# Altium integrated library Linear Technology Power Management Switching Regulator LTC1174-LTC3901.IntLib: 2647 symbols (part 58 of 364)
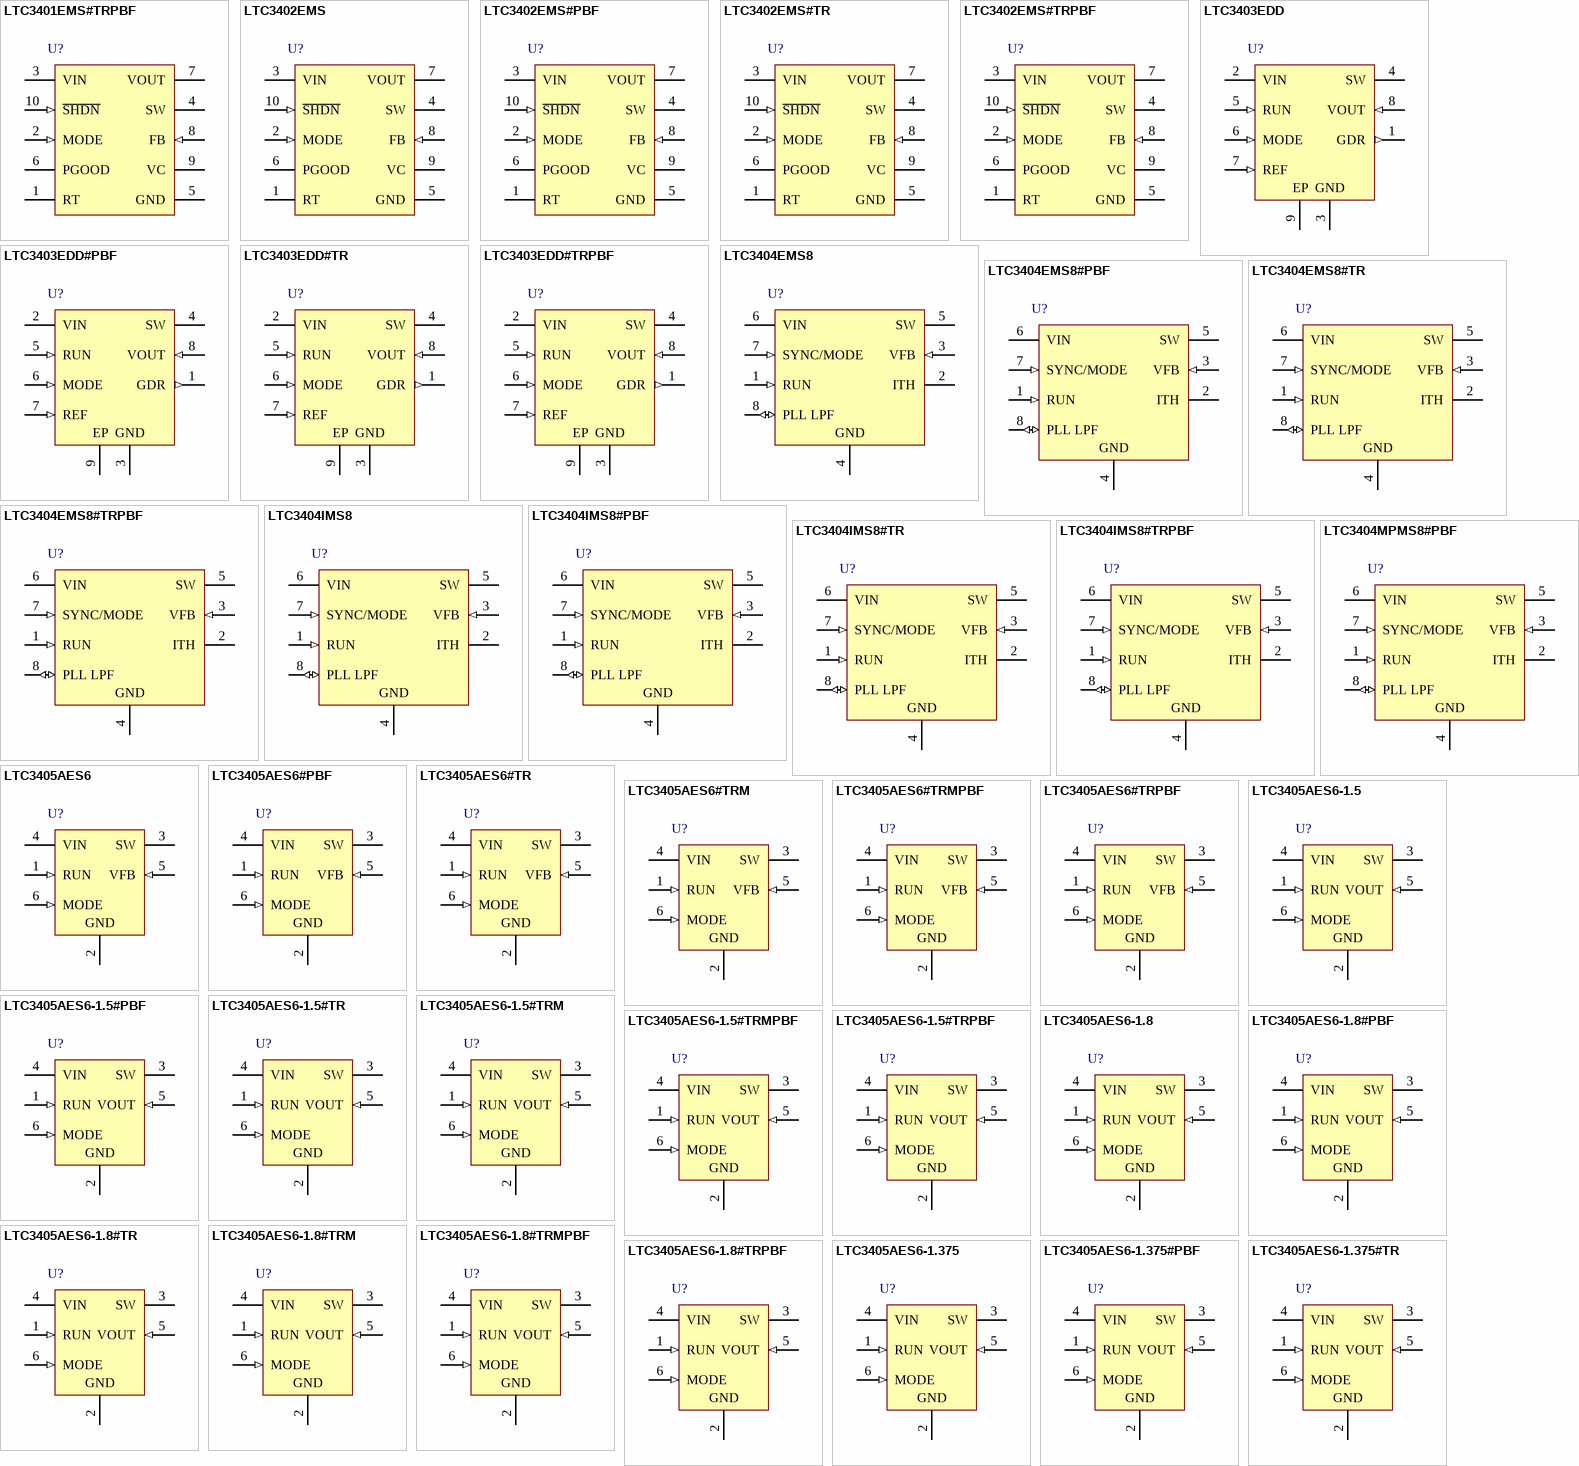
[diagram p145: symbols LTC3401EMS#TRPBF to LTC3405AES6-1.375#TR]

## LTC3401EMS#TRPBF
designator U?
1 A, 3 MHz Micropower Synchronous Boost Converter, 10-pin SOP (MS-10), -40 to 85 degC, Pb-Free, Tape and Reel; Manufacturer: Linear Technology; PartNumber: LTC3401EMS#TRPBF; Number of Outputs: 1; DatasheetVersion: Rev. B; PackageVersion: Rev. E, 06/2010; PackageReference: MS-10; PackageDescription: 10-Pin Plastic MSOP, Body 3 x 3 mm, Pitch 0.5 mm; Supplier 1: Digi-Key; Supplier Part Number 1: LTC3401EMS#TRPBFTR-ND; Supplier 2: Digi-Key; Supplier Part Number 2: LTC3401EMS#TRPBFCT-ND; Supplier 3: Digi-Key; Supplier Part Number 3: LTC3401EMS#TRPBFDKR-ND; Supplier 4: Newark; Supplier Part Number 4: 56M7497; Packing: Tape and Reel; RoHS: TRUE; Mounting Technology: Surface Mount; ComponentLink1Description: Manufacturer URL; ComponentLink1URL: http://www.linear.com/; ComponentLink2Description: Datasheet; ComponentLink2URL: http://cds.linear.com/docs/en/datasheet/3401fb.pdf; ComponentLink3Description: Package Specification; ComponentLink3URL: http://cds.linear.com/docs/en/packaging/05081661_F_MS.pdf
footprint LT-MS-10_N (SOP, 10-Leads, Body 3.1x3.1mm, Pitch 0.5mm, IPC Medium Density)
footprint LT-MS-10_L (SOP, 10-Leads, Body 3.1x3.1mm, Pitch 0.5mm, IPC High Density)
footprint LT-MS-10_M (SOP, 10-Leads, Body 3.1x3.1mm, Pitch 0.5mm, IPC Low Density)
pins: 1 RT "Timing Resistor to Program the Oscillator Frequency.", 2 MODE (in) "Burst Mode Select and Oscillator Synchronization. MODE/SYNC = High. Enable Burst Mode operation. The inductor peak inductor current will be 1/3 the current limit value and return to zero current on each cycle. During Burst (See Datasheet)", 3 VIN (power) "Input Supply Pin", 4 SW "Switch Pin. Connect inductor and Schottky diode here. For applications with output voltages over 4.3V, a Schottky diode is required to ensure that the SW pin voltage does not exceed its absolute maximum rating. Minimize (See Datasheet)", 5 GND (power) "Signal and Power Ground for the IC.", 6 PGOOD (oc) "Power Good Comparator Output. This open-drain output is low when VFB < -9% from its regulation voltage.", 7 VOUT (power) "Output of the Synchronous Rectifier and Bootstrapped Power Source for the IC. A ceramic capacitor of at least 1uF is required and should be located as close to the VOUT and GND pins as possible (Pins 7 and 5).", 8 FB (in) "Feedback Pin. Connect resistor divider tap here. The output voltage can be adjusted from 2.6V to 5V. The feedback reference voltage is typically 1.25V.", 9 VC "Error Amp Output. A frequency compensation network is connected to this pin to compensate the loop. See the section “Compensating the Feedback Loop” for guidelines.", 10 ~{SHDN} (in) "Shutdown. Grounding this pin shuts down the IC. Tie to >1V to enable (VIN or digital gate output). To operate with input voltages below 1V once the converter has started, a 1M resistor from S\H\D\N\ to VIN and a 5M resistor (See Datasheet)"

## LTC3402EMS
designator U?
1 A, 3 MHz Micropower Synchronous Boost Converter, 10-pin SOP (MS-10), -40 to 85 degC; Manufacturer: Linear Technology; PartNumber: LTC3402EMS; Frequency Sync Range: 100kHz - 3MHz; Number of Outputs: 1; DatasheetVersion: Rev. B; PackageVersion: Rev. E, 06/2010; PackageReference: MS-10; PackageDescription: 10-Pin Plastic MSOP, Body 3 x 3 mm, Pitch 0.5 mm; Supplier 1: Digi-Key; Supplier Part Number 1: LTC3402EMS-ND; Supplier 2: Newark; Supplier Part Number 2: 56M7498; RoHS: FALSE; Mounting Technology: Surface Mount; ComponentLink1Description: Manufacturer URL; ComponentLink1URL: http://www.linear.com/; ComponentLink2Description: Datasheet; ComponentLink2URL: http://cds.linear.com/docs/en/datasheet/3402fb.pdf; ComponentLink3Description: Package Specification; ComponentLink3URL: http://cds.linear.com/docs/en/packaging/05081661_F_MS.pdf
footprint LT-MS-10_N (SOP, 10-Leads, Body 3.1x3.1mm, Pitch 0.5mm, IPC Medium Density)
footprint LT-MS-10_L (SOP, 10-Leads, Body 3.1x3.1mm, Pitch 0.5mm, IPC High Density)
footprint LT-MS-10_M (SOP, 10-Leads, Body 3.1x3.1mm, Pitch 0.5mm, IPC Low Density)
pins: 1 RT "Timing Resistor to Program the Oscillator Frequency.", 2 MODE (in) "Burst Mode Select and Oscillator Synchronization. MODE/SYNC = High. Enable Burst Mode operation. The inductor peak inductor current will be 1/3 the current limit value and return to zero current on each cycle. During Burst (See Datasheet)", 3 VIN (power) "Input Supply Pin", 4 SW "Switch Pin. Connect inductor and Schottky diode here. For applications with output voltages over 4.3V, a Schottky diode is required to ensure that the SW pin voltage does not exceed its absolute maximum rating. Minimize (See Datasheet)", 5 GND (power) "Signal and Power Ground for the IC.", 6 PGOOD (oc) "Power Good Comparator Output. This open-drain output is low when VFB < -9% from its regulation voltage.", 7 VOUT (power) "Output of the Synchronous Rectifier and Bootstrapped Power Source for the IC. A ceramic capacitor of at least 1uF is required and should be located as close to the VOUT and GND pins as possible (Pins 7 and 5).", 8 FB (in) "Feedback Pin. Connect resistor divider tap here. The output voltage can be adjusted from 2.6V to 5V. The feedback reference voltage is typically 1.25V.", 9 VC "Error Amp Output. A frequency compensation network is connected to this pin to compensate the loop. See the section “Compensating the Feedback Loop” for guidelines.", 10 ~{SHDN} (in) "Shutdown. Grounding this pin shuts down the IC. Tie to >1V to enable (VIN or digital gate output). To operate with input voltages below 1V once the converter has started, a 1M resistor from S\H\D\N\ to VIN and a 5M resistor (See Datasheet)"

## LTC3402EMS#PBF
designator U?
1 A, 3 MHz Micropower Synchronous Boost Converter, 10-pin SOP (MS-10), -40 to 85 degC, Pb-Free; Manufacturer: Linear Technology; PartNumber: LTC3402EMS#PBF; Frequency Sync Range: 100kHz - 3MHz; Number of Outputs: 1; DatasheetVersion: Rev. B; PackageVersion: Rev. E, 06/2010; PackageReference: MS-10; PackageDescription: 10-Pin Plastic MSOP, Body 3 x 3 mm, Pitch 0.5 mm; Supplier 1: Digi-Key; Supplier Part Number 1: LTC3402EMS#PBF-ND; Supplier 2: Farnell; Supplier Part Number 2: 1273926; Supplier 3: Newark; Supplier Part Number 3: 56M7499; RoHS: TRUE; Mounting Technology: Surface Mount; ComponentLink1Description: Manufacturer URL; ComponentLink1URL: http://www.linear.com/; ComponentLink2Description: Datasheet; ComponentLink2URL: http://cds.linear.com/docs/en/datasheet/3402fb.pdf; ComponentLink3Description: Package Specification; ComponentLink3URL: http://cds.linear.com/docs/en/packaging/05081661_F_MS.pdf
footprint LT-MS-10_N (SOP, 10-Leads, Body 3.1x3.1mm, Pitch 0.5mm, IPC Medium Density)
footprint LT-MS-10_L (SOP, 10-Leads, Body 3.1x3.1mm, Pitch 0.5mm, IPC High Density)
footprint LT-MS-10_M (SOP, 10-Leads, Body 3.1x3.1mm, Pitch 0.5mm, IPC Low Density)
pins: 1 RT "Timing Resistor to Program the Oscillator Frequency.", 2 MODE (in) "Burst Mode Select and Oscillator Synchronization. MODE/SYNC = High. Enable Burst Mode operation. The inductor peak inductor current will be 1/3 the current limit value and return to zero current on each cycle. During Burst (See Datasheet)", 3 VIN (power) "Input Supply Pin", 4 SW "Switch Pin. Connect inductor and Schottky diode here. For applications with output voltages over 4.3V, a Schottky diode is required to ensure that the SW pin voltage does not exceed its absolute maximum rating. Minimize (See Datasheet)", 5 GND (power) "Signal and Power Ground for the IC.", 6 PGOOD (oc) "Power Good Comparator Output. This open-drain output is low when VFB < -9% from its regulation voltage.", 7 VOUT (power) "Output of the Synchronous Rectifier and Bootstrapped Power Source for the IC. A ceramic capacitor of at least 1uF is required and should be located as close to the VOUT and GND pins as possible (Pins 7 and 5).", 8 FB (in) "Feedback Pin. Connect resistor divider tap here. The output voltage can be adjusted from 2.6V to 5V. The feedback reference voltage is typically 1.25V.", 9 VC "Error Amp Output. A frequency compensation network is connected to this pin to compensate the loop. See the section “Compensating the Feedback Loop” for guidelines.", 10 ~{SHDN} (in) "Shutdown. Grounding this pin shuts down the IC. Tie to >1V to enable (VIN or digital gate output). To operate with input voltages below 1V once the converter has started, a 1M resistor from S\H\D\N\ to VIN and a 5M resistor (See Datasheet)"

## LTC3402EMS#TR
designator U?
1 A, 3 MHz Micropower Synchronous Boost Converter, 10-pin SOP (MS-10), -40 to 85 degC, Tape and Reel; Manufacturer: Linear Technology; PartNumber: LTC3402EMS#TR; Frequency Sync Range: 100kHz - 3MHz; Number of Outputs: 1; DatasheetVersion: Rev. B; PackageVersion: Rev. E, 06/2010; PackageReference: MS-10; PackageDescription: 10-Pin Plastic MSOP, Body 3 x 3 mm, Pitch 0.5 mm; Supplier 1: Digi-Key; Supplier Part Number 1: LTC3402EMS#TR-ND; Packing: Tape and Reel; RoHS: FALSE; Mounting Technology: Surface Mount; ComponentLink1Description: Manufacturer URL; ComponentLink1URL: http://www.linear.com/; ComponentLink2Description: Datasheet; ComponentLink2URL: http://cds.linear.com/docs/en/datasheet/3402fb.pdf; ComponentLink3Description: Package Specification; ComponentLink3URL: http://cds.linear.com/docs/en/packaging/05081661_F_MS.pdf
footprint LT-MS-10_N (SOP, 10-Leads, Body 3.1x3.1mm, Pitch 0.5mm, IPC Medium Density)
footprint LT-MS-10_L (SOP, 10-Leads, Body 3.1x3.1mm, Pitch 0.5mm, IPC High Density)
footprint LT-MS-10_M (SOP, 10-Leads, Body 3.1x3.1mm, Pitch 0.5mm, IPC Low Density)
pins: 1 RT "Timing Resistor to Program the Oscillator Frequency.", 2 MODE (in) "Burst Mode Select and Oscillator Synchronization. MODE/SYNC = High. Enable Burst Mode operation. The inductor peak inductor current will be 1/3 the current limit value and return to zero current on each cycle. During Burst (See Datasheet)", 3 VIN (power) "Input Supply Pin", 4 SW "Switch Pin. Connect inductor and Schottky diode here. For applications with output voltages over 4.3V, a Schottky diode is required to ensure that the SW pin voltage does not exceed its absolute maximum rating. Minimize (See Datasheet)", 5 GND (power) "Signal and Power Ground for the IC.", 6 PGOOD (oc) "Power Good Comparator Output. This open-drain output is low when VFB < -9% from its regulation voltage.", 7 VOUT (power) "Output of the Synchronous Rectifier and Bootstrapped Power Source for the IC. A ceramic capacitor of at least 1uF is required and should be located as close to the VOUT and GND pins as possible (Pins 7 and 5).", 8 FB (in) "Feedback Pin. Connect resistor divider tap here. The output voltage can be adjusted from 2.6V to 5V. The feedback reference voltage is typically 1.25V.", 9 VC "Error Amp Output. A frequency compensation network is connected to this pin to compensate the loop. See the section “Compensating the Feedback Loop” for guidelines.", 10 ~{SHDN} (in) "Shutdown. Grounding this pin shuts down the IC. Tie to >1V to enable (VIN or digital gate output). To operate with input voltages below 1V once the converter has started, a 1M resistor from S\H\D\N\ to VIN and a 5M resistor (See Datasheet)"

## LTC3402EMS#TRPBF
designator U?
1 A, 3 MHz Micropower Synchronous Boost Converter, 10-pin SOP (MS-10), -40 to 85 degC, Pb-Free, Tape and Reel; Manufacturer: Linear Technology; PartNumber: LTC3402EMS#TRPBF; Frequency Sync Range: 100kHz - 3MHz; Number of Outputs: 1; DatasheetVersion: Rev. B; PackageVersion: Rev. E, 06/2010; PackageReference: MS-10; PackageDescription: 10-Pin Plastic MSOP, Body 3 x 3 mm, Pitch 0.5 mm; Supplier 1: Digi-Key; Supplier Part Number 1: LTC3402EMS#TRPBF-ND; Supplier 2: Newark; Supplier Part Number 2: 56M7501; Packing: Tape and Reel; RoHS: TRUE; Mounting Technology: Surface Mount; ComponentLink1Description: Manufacturer URL; ComponentLink1URL: http://www.linear.com/; ComponentLink2Description: Datasheet; ComponentLink2URL: http://cds.linear.com/docs/en/datasheet/3402fb.pdf; ComponentLink3Description: Package Specification; ComponentLink3URL: http://cds.linear.com/docs/en/packaging/05081661_F_MS.pdf
footprint LT-MS-10_N (SOP, 10-Leads, Body 3.1x3.1mm, Pitch 0.5mm, IPC Medium Density)
footprint LT-MS-10_L (SOP, 10-Leads, Body 3.1x3.1mm, Pitch 0.5mm, IPC High Density)
footprint LT-MS-10_M (SOP, 10-Leads, Body 3.1x3.1mm, Pitch 0.5mm, IPC Low Density)
pins: 1 RT "Timing Resistor to Program the Oscillator Frequency.", 2 MODE (in) "Burst Mode Select and Oscillator Synchronization. MODE/SYNC = High. Enable Burst Mode operation. The inductor peak inductor current will be 1/3 the current limit value and return to zero current on each cycle. During Burst (See Datasheet)", 3 VIN (power) "Input Supply Pin", 4 SW "Switch Pin. Connect inductor and Schottky diode here. For applications with output voltages over 4.3V, a Schottky diode is required to ensure that the SW pin voltage does not exceed its absolute maximum rating. Minimize (See Datasheet)", 5 GND (power) "Signal and Power Ground for the IC.", 6 PGOOD (oc) "Power Good Comparator Output. This open-drain output is low when VFB < -9% from its regulation voltage.", 7 VOUT (power) "Output of the Synchronous Rectifier and Bootstrapped Power Source for the IC. A ceramic capacitor of at least 1uF is required and should be located as close to the VOUT and GND pins as possible (Pins 7 and 5).", 8 FB (in) "Feedback Pin. Connect resistor divider tap here. The output voltage can be adjusted from 2.6V to 5V. The feedback reference voltage is typically 1.25V.", 9 VC "Error Amp Output. A frequency compensation network is connected to this pin to compensate the loop. See the section “Compensating the Feedback Loop” for guidelines.", 10 ~{SHDN} (in) "Shutdown. Grounding this pin shuts down the IC. Tie to >1V to enable (VIN or digital gate output). To operate with input voltages below 1V once the converter has started, a 1M resistor from S\H\D\N\ to VIN and a 5M resistor (See Datasheet)"

## LTC3403EDD
designator U?
1.5MHz, 600mA Synchronous Step-Down Regulator with Bypass Transistor, 8-pin SON (DD-8), -40 to 85 degC; Manufacturer: Linear Technology; PartNumber: LTC3403EDD; Number of Outputs: 1; PackageVersion: Jun-10; PackageReference: DD-8; PackageDescription: 8-Pin Plastic DFN, Body 3 x 3 mm, Pitch 0.5 mm; Supplier 1: Digi-Key; Supplier Part Number 1: LTC3403EDD-ND; RoHS: FALSE; Mounting Technology: Surface Mount; Code_JEDEC: MO-229; ComponentLink1Description: Manufacturer URL; ComponentLink1URL: http://www.linear.com/; ComponentLink2Description: Datasheet; ComponentLink2URL: http://cds.linear.com/docs/en/datasheet/3403f.pdf; ComponentLink3Description: Package Specification; ComponentLink3URL: http://cds.linear.com/docs/en/packaging/DFN_8_05-08-1698.pdf
footprint LT-DD-8_V (SON, 8-Leads, Body 3x3mm, Pitch 0.5mm, Thermal Pad 1.65x2.38 mm)
pins: 1 GDR (out) "MOSFET Gate Driver. Drives a small external P-channel MOSFET.", 2 VIN (power) "Main Supply Pin. Must be closely decoupled to GND, Pin 3, with a 10uF or greater ceramic capacitor.", 3 GND (power) "Ground Pin.", 4 SW (power) "Switch Node Connection to Inductor. This pin connects to the drains of the internal main and synchronous power MOSFET switches.", 5 RUN (in) "Run Control Input. Forcing this pin above 1.5V enables the part. Forcing this pin below 0.3V shuts down the device. In shutdown, all functions are disabled drawing <1uA supply current. Do not leave RUN floating.", 6 MODE (in) "Mode Select Input. To select forced continuous mode, tie to VIN. Grounding this pin selects Burst Mode operation. Do not leave this pin floating.", 7 REF (in) "External Reference Input. Controls the output voltage to 3xthe applied voltage at REF. Also turns on the bypass MOSFET when VREF > 1.2V.", 8 VOUT (in) "Output Voltage Feedback Pin. An internal resistive divider divides the output voltage down by 3 for comparison to the external reference voltage. The drain of the P-channel bypass MOSFET is connected to this pin.", 9 EP (power) "Connect to GND, Pin 3."

## LTC3403EDD#PBF
designator U?
1.5MHz, 600mA Synchronous Step-Down Regulator with Bypass Transistor, 8-pin SON (DD-8), -40 to 85 degC, Pb-Free; Manufacturer: Linear Technology; PartNumber: LTC3403EDD#PBF; Number of Outputs: 1; PackageVersion: Jun-10; PackageReference: DD-8; PackageDescription: 8-Pin Plastic DFN, Body 3 x 3 mm, Pitch 0.5 mm; Supplier 1: Digi-Key; Supplier Part Number 1: LTC3403EDD#PBF-ND; RoHS: TRUE; Mounting Technology: Surface Mount; Code_JEDEC: MO-229; ComponentLink1Description: Manufacturer URL; ComponentLink1URL: http://www.linear.com/; ComponentLink2Description: Datasheet; ComponentLink2URL: http://cds.linear.com/docs/en/datasheet/3403f.pdf; ComponentLink3Description: Package Specification; ComponentLink3URL: http://cds.linear.com/docs/en/packaging/DFN_8_05-08-1698.pdf
footprint LT-DD-8_V (SON, 8-Leads, Body 3x3mm, Pitch 0.5mm, Thermal Pad 1.65x2.38 mm)
pins: 1 GDR (out) "MOSFET Gate Driver. Drives a small external P-channel MOSFET.", 2 VIN (power) "Main Supply Pin. Must be closely decoupled to GND, Pin 3, with a 10uF or greater ceramic capacitor.", 3 GND (power) "Ground Pin.", 4 SW (power) "Switch Node Connection to Inductor. This pin connects to the drains of the internal main and synchronous power MOSFET switches.", 5 RUN (in) "Run Control Input. Forcing this pin above 1.5V enables the part. Forcing this pin below 0.3V shuts down the device. In shutdown, all functions are disabled drawing <1uA supply current. Do not leave RUN floating.", 6 MODE (in) "Mode Select Input. To select forced continuous mode, tie to VIN. Grounding this pin selects Burst Mode operation. Do not leave this pin floating.", 7 REF (in) "External Reference Input. Controls the output voltage to 3xthe applied voltage at REF. Also turns on the bypass MOSFET when VREF > 1.2V.", 8 VOUT (in) "Output Voltage Feedback Pin. An internal resistive divider divides the output voltage down by 3 for comparison to the external reference voltage. The drain of the P-channel bypass MOSFET is connected to this pin.", 9 EP (power) "Connect to GND, Pin 3."

## LTC3403EDD#TR
designator U?
1.5MHz, 600mA Synchronous Step-Down Regulator with Bypass Transistor, 8-pin SON (DD-8), -40 to 85 degC, Tape and Reel; Manufacturer: Linear Technology; PartNumber: LTC3403EDD#TR; Number of Outputs: 1; PackageVersion: Jun-10; PackageReference: DD-8; PackageDescription: 8-Pin Plastic DFN, Body 3 x 3 mm, Pitch 0.5 mm; Supplier 1: Digi-Key; Supplier Part Number 1: LTC3403EDD#TR-ND; Packing: Tape and Reel; RoHS: FALSE; Mounting Technology: Surface Mount; Code_JEDEC: MO-229; ComponentLink1Description: Manufacturer URL; ComponentLink1URL: http://www.linear.com/; ComponentLink2Description: Datasheet; ComponentLink2URL: http://cds.linear.com/docs/en/datasheet/3403f.pdf; ComponentLink3Description: Package Specification; ComponentLink3URL: http://cds.linear.com/docs/en/packaging/DFN_8_05-08-1698.pdf
footprint LT-DD-8_V (SON, 8-Leads, Body 3x3mm, Pitch 0.5mm, Thermal Pad 1.65x2.38 mm)
pins: 1 GDR (out) "MOSFET Gate Driver. Drives a small external P-channel MOSFET.", 2 VIN (power) "Main Supply Pin. Must be closely decoupled to GND, Pin 3, with a 10uF or greater ceramic capacitor.", 3 GND (power) "Ground Pin.", 4 SW (power) "Switch Node Connection to Inductor. This pin connects to the drains of the internal main and synchronous power MOSFET switches.", 5 RUN (in) "Run Control Input. Forcing this pin above 1.5V enables the part. Forcing this pin below 0.3V shuts down the device. In shutdown, all functions are disabled drawing <1uA supply current. Do not leave RUN floating.", 6 MODE (in) "Mode Select Input. To select forced continuous mode, tie to VIN. Grounding this pin selects Burst Mode operation. Do not leave this pin floating.", 7 REF (in) "External Reference Input. Controls the output voltage to 3xthe applied voltage at REF. Also turns on the bypass MOSFET when VREF > 1.2V.", 8 VOUT (in) "Output Voltage Feedback Pin. An internal resistive divider divides the output voltage down by 3 for comparison to the external reference voltage. The drain of the P-channel bypass MOSFET is connected to this pin.", 9 EP (power) "Connect to GND, Pin 3."

## LTC3403EDD#TRPBF
designator U?
1.5MHz, 600mA Synchronous Step-Down Regulator with Bypass Transistor, 8-pin SON (DD-8), -40 to 85 degC, Pb-Free, Tape and Reel; Manufacturer: Linear Technology; PartNumber: LTC3403EDD#TRPBF; Number of Outputs: 1; PackageVersion: Jun-10; PackageReference: DD-8; PackageDescription: 8-Pin Plastic DFN, Body 3 x 3 mm, Pitch 0.5 mm; Supplier 1: Digi-Key; Supplier Part Number 1: LTC3403EDD#TRPBF-ND; Packing: Tape and Reel; RoHS: TRUE; Mounting Technology: Surface Mount; Code_JEDEC: MO-229; ComponentLink1Description: Manufacturer URL; ComponentLink1URL: http://www.linear.com/; ComponentLink2Description: Datasheet; ComponentLink2URL: http://cds.linear.com/docs/en/datasheet/3403f.pdf; ComponentLink3Description: Package Specification; ComponentLink3URL: http://cds.linear.com/docs/en/packaging/DFN_8_05-08-1698.pdf
footprint LT-DD-8_V (SON, 8-Leads, Body 3x3mm, Pitch 0.5mm, Thermal Pad 1.65x2.38 mm)
pins: 1 GDR (out) "MOSFET Gate Driver. Drives a small external P-channel MOSFET.", 2 VIN (power) "Main Supply Pin. Must be closely decoupled to GND, Pin 3, with a 10uF or greater ceramic capacitor.", 3 GND (power) "Ground Pin.", 4 SW (power) "Switch Node Connection to Inductor. This pin connects to the drains of the internal main and synchronous power MOSFET switches.", 5 RUN (in) "Run Control Input. Forcing this pin above 1.5V enables the part. Forcing this pin below 0.3V shuts down the device. In shutdown, all functions are disabled drawing <1uA supply current. Do not leave RUN floating.", 6 MODE (in) "Mode Select Input. To select forced continuous mode, tie to VIN. Grounding this pin selects Burst Mode operation. Do not leave this pin floating.", 7 REF (in) "External Reference Input. Controls the output voltage to 3xthe applied voltage at REF. Also turns on the bypass MOSFET when VREF > 1.2V.", 8 VOUT (in) "Output Voltage Feedback Pin. An internal resistive divider divides the output voltage down by 3 for comparison to the external reference voltage. The drain of the P-channel bypass MOSFET is connected to this pin.", 9 EP (power) "Connect to GND, Pin 3."

## LTC3404EMS8
designator U?
1.4 MHz High Efficiency Monolithic Synchronous Step-Down Regulator, 8-pin SOP (MS8-8), -40 to 85 degC; Manufacturer: Linear Technology; PartNumber: LTC3404EMS8; Frequency Sync Range: 1MHz - 1.7MHz; Number of Outputs: 1; DatasheetVersion: Rev. B; PackageVersion: Rev. G, 05/2013; PackageReference: MS8; PackageDescription: 8-Pin Plastic MSOP, Body 3 x 3 mm, Pitch 0.65 mm; Supplier 1: Digi-Key; Supplier Part Number 1: LTC3404EMS8-ND; RoHS: FALSE; Mounting Technology: Surface Mount; ComponentLink1Description: Manufacturer URL; ComponentLink1URL: http://www.linear.com/; ComponentLink2Description: Datasheet; ComponentLink2URL: http://cds.linear.com/docs/en/datasheet/3404fb.pdf; ComponentLink3Description: Package Specification; ComponentLink3URL: http://cds.linear.com/docs/en/packaging/05081660_G_MS8.pdf
footprint LT-MS8_N (SOP, 8-Leads, Body 3.1x3.1mm, Pitch 0.65mm, IPC Medium Density)
footprint LT-MS8_L (SOP, 8-Leads, Body 3.1x3.1mm, Pitch 0.65mm, IPC High Density)
footprint LT-MS8_M (SOP, 8-Leads, Body 3.1x3.1mm, Pitch 0.65mm, IPC Low Density)
pins: 1 RUN (in), 2 ITH "Error Amplifier Compensation Point. The current comparator threshold increases with this control voltage. Nominal voltage range for this pin is from 0.5V to 1.9V", 3 VFB (in) "Feedback Pin. Receives the feedback voltage from an external resistive divider across the output.", 4 GND (power) "Ground Pin.", 5 SW (power) "Switch Node Connection to Inductor. This pin connects to the drains of the internal main and synchronous power MOSFET switches.", 6 VIN (power) "Main Supply Pin. Must be closely decoupled to GND, Pin 4.", 7 SYNC/MODE (in), 8 PLL LPF (io) "Output of the Phase Detector and Control Input of Oscillator. Connect a series RC lowpass network from this pin to ground if externally synchronized. If unused, this pin may be left open."

## LTC3404EMS8#PBF
designator U?
1.4 MHz High Efficiency Monolithic Synchronous Step-Down Regulator, 8-pin SOP (MS8-8), -40 to 85 degC, Pb-Free; Manufacturer: Linear Technology; PartNumber: LTC3404EMS8#PBF; Frequency Sync Range: 1MHz - 1.7MHz; Number of Outputs: 1; DatasheetVersion: Rev. B; PackageVersion: Rev. G, 05/2013; PackageReference: MS8; PackageDescription: 8-Pin Plastic MSOP, Body 3 x 3 mm, Pitch 0.65 mm; Supplier 1: Digi-Key; Supplier Part Number 1: LTC3404EMS8#PBF-ND; Supplier 2: Farnell; Supplier Part Number 2: 1273927; Supplier 3: Newark; Supplier Part Number 3: 56M7507; RoHS: TRUE; Mounting Technology: Surface Mount; ComponentLink1Description: Manufacturer URL; ComponentLink1URL: http://www.linear.com/; ComponentLink2Description: Datasheet; ComponentLink2URL: http://cds.linear.com/docs/en/datasheet/3404fb.pdf; ComponentLink3Description: Package Specification; ComponentLink3URL: http://cds.linear.com/docs/en/packaging/05081660_G_MS8.pdf
footprint LT-MS8_N (SOP, 8-Leads, Body 3.1x3.1mm, Pitch 0.65mm, IPC Medium Density)
footprint LT-MS8_L (SOP, 8-Leads, Body 3.1x3.1mm, Pitch 0.65mm, IPC High Density)
footprint LT-MS8_M (SOP, 8-Leads, Body 3.1x3.1mm, Pitch 0.65mm, IPC Low Density)
pins: 1 RUN (in), 2 ITH "Error Amplifier Compensation Point. The current comparator threshold increases with this control voltage. Nominal voltage range for this pin is from 0.5V to 1.9V", 3 VFB (in) "Feedback Pin. Receives the feedback voltage from an external resistive divider across the output.", 4 GND (power) "Ground Pin.", 5 SW (power) "Switch Node Connection to Inductor. This pin connects to the drains of the internal main and synchronous power MOSFET switches.", 6 VIN (power) "Main Supply Pin. Must be closely decoupled to GND, Pin 4.", 7 SYNC/MODE (in), 8 PLL LPF (io) "Output of the Phase Detector and Control Input of Oscillator. Connect a series RC lowpass network from this pin to ground if externally synchronized. If unused, this pin may be left open."

## LTC3404EMS8#TR
designator U?
1.4 MHz High Efficiency Monolithic Synchronous Step-Down Regulator, 8-pin SOP (MS8-8), -40 to 85 degC, Tape and Reel; Manufacturer: Linear Technology; PartNumber: LTC3404EMS8#TR; Frequency Sync Range: 1MHz - 1.7MHz; Number of Outputs: 1; DatasheetVersion: Rev. B; PackageVersion: Rev. G, 05/2013; PackageReference: MS8; PackageDescription: 8-Pin Plastic MSOP, Body 3 x 3 mm, Pitch 0.65 mm; Supplier 1: Digi-Key; Supplier Part Number 1: LTC3404EMS8#TR-ND; Supplier 2: Newark; Supplier Part Number 2: 56M7508; Packing: Tape and Reel; RoHS: FALSE; Mounting Technology: Surface Mount; ComponentLink1Description: Manufacturer URL; ComponentLink1URL: http://www.linear.com/; ComponentLink2Description: Datasheet; ComponentLink2URL: http://cds.linear.com/docs/en/datasheet/3404fb.pdf; ComponentLink3Description: Package Specification; ComponentLink3URL: http://cds.linear.com/docs/en/packaging/05081660_G_MS8.pdf
footprint LT-MS8_N (SOP, 8-Leads, Body 3.1x3.1mm, Pitch 0.65mm, IPC Medium Density)
footprint LT-MS8_L (SOP, 8-Leads, Body 3.1x3.1mm, Pitch 0.65mm, IPC High Density)
footprint LT-MS8_M (SOP, 8-Leads, Body 3.1x3.1mm, Pitch 0.65mm, IPC Low Density)
pins: 1 RUN (in), 2 ITH "Error Amplifier Compensation Point. The current comparator threshold increases with this control voltage. Nominal voltage range for this pin is from 0.5V to 1.9V", 3 VFB (in) "Feedback Pin. Receives the feedback voltage from an external resistive divider across the output.", 4 GND (power) "Ground Pin.", 5 SW (power) "Switch Node Connection to Inductor. This pin connects to the drains of the internal main and synchronous power MOSFET switches.", 6 VIN (power) "Main Supply Pin. Must be closely decoupled to GND, Pin 4.", 7 SYNC/MODE (in), 8 PLL LPF (io) "Output of the Phase Detector and Control Input of Oscillator. Connect a series RC lowpass network from this pin to ground if externally synchronized. If unused, this pin may be left open."

## LTC3404EMS8#TRPBF
designator U?
1.4 MHz High Efficiency Monolithic Synchronous Step-Down Regulator, 8-pin SOP (MS8-8), -40 to 85 degC, Pb-Free, Tape and Reel; Manufacturer: Linear Technology; PartNumber: LTC3404EMS8#TRPBF; Frequency Sync Range: 1MHz - 1.7MHz; Number of Outputs: 1; DatasheetVersion: Rev. B; PackageVersion: Rev. G, 05/2013; PackageReference: MS8; PackageDescription: 8-Pin Plastic MSOP, Body 3 x 3 mm, Pitch 0.65 mm; Supplier 1: Digi-Key; Supplier Part Number 1: LTC3404EMS8#TRPBF-ND; Packing: Tape and Reel; RoHS: TRUE; Mounting Technology: Surface Mount; ComponentLink1Description: Manufacturer URL; ComponentLink1URL: http://www.linear.com/; ComponentLink2Description: Datasheet; ComponentLink2URL: http://cds.linear.com/docs/en/datasheet/3404fb.pdf; ComponentLink3Description: Package Specification; ComponentLink3URL: http://cds.linear.com/docs/en/packaging/05081660_G_MS8.pdf
footprint LT-MS8_N (SOP, 8-Leads, Body 3.1x3.1mm, Pitch 0.65mm, IPC Medium Density)
footprint LT-MS8_L (SOP, 8-Leads, Body 3.1x3.1mm, Pitch 0.65mm, IPC High Density)
footprint LT-MS8_M (SOP, 8-Leads, Body 3.1x3.1mm, Pitch 0.65mm, IPC Low Density)
pins: 1 RUN (in), 2 ITH "Error Amplifier Compensation Point. The current comparator threshold increases with this control voltage. Nominal voltage range for this pin is from 0.5V to 1.9V", 3 VFB (in) "Feedback Pin. Receives the feedback voltage from an external resistive divider across the output.", 4 GND (power) "Ground Pin.", 5 SW (power) "Switch Node Connection to Inductor. This pin connects to the drains of the internal main and synchronous power MOSFET switches.", 6 VIN (power) "Main Supply Pin. Must be closely decoupled to GND, Pin 4.", 7 SYNC/MODE (in), 8 PLL LPF (io) "Output of the Phase Detector and Control Input of Oscillator. Connect a series RC lowpass network from this pin to ground if externally synchronized. If unused, this pin may be left open."

## LTC3404IMS8
designator U?
1.4 MHz High Efficiency Monolithic Synchronous Step-Down Regulator, 8-pin SOP (MS8-8), -40 to 85 degC; Manufacturer: Linear Technology; PartNumber: LTC3404IMS8; Frequency Sync Range: 1MHz - 1.7MHz; Number of Outputs: 1; DatasheetVersion: Rev. B; PackageVersion: Rev. G, 05/2013; PackageReference: MS8; PackageDescription: 8-Pin Plastic MSOP, Body 3 x 3 mm, Pitch 0.65 mm; Supplier 1: Newark; Supplier Part Number 1: 56M7510; RoHS: FALSE; Mounting Technology: Surface Mount; ComponentLink1Description: Manufacturer URL; ComponentLink1URL: http://www.linear.com/; ComponentLink2Description: Datasheet; ComponentLink2URL: http://cds.linear.com/docs/en/datasheet/3404fb.pdf; ComponentLink3Description: Package Specification; ComponentLink3URL: http://cds.linear.com/docs/en/packaging/05081660_G_MS8.pdf
footprint LT-MS8_N (SOP, 8-Leads, Body 3.1x3.1mm, Pitch 0.65mm, IPC Medium Density)
footprint LT-MS8_L (SOP, 8-Leads, Body 3.1x3.1mm, Pitch 0.65mm, IPC High Density)
footprint LT-MS8_M (SOP, 8-Leads, Body 3.1x3.1mm, Pitch 0.65mm, IPC Low Density)
pins: 1 RUN (in), 2 ITH "Error Amplifier Compensation Point. The current comparator threshold increases with this control voltage. Nominal voltage range for this pin is from 0.5V to 1.9V", 3 VFB (in) "Feedback Pin. Receives the feedback voltage from an external resistive divider across the output.", 4 GND (power) "Ground Pin.", 5 SW (power) "Switch Node Connection to Inductor. This pin connects to the drains of the internal main and synchronous power MOSFET switches.", 6 VIN (power) "Main Supply Pin. Must be closely decoupled to GND, Pin 4.", 7 SYNC/MODE (in), 8 PLL LPF (io) "Output of the Phase Detector and Control Input of Oscillator. Connect a series RC lowpass network from this pin to ground if externally synchronized. If unused, this pin may be left open."

## LTC3404IMS8#PBF
designator U?
1.4 MHz High Efficiency Monolithic Synchronous Step-Down Regulator, 8-pin SOP (MS8-8), -40 to 85 degC, Pb-Free; Manufacturer: Linear Technology; PartNumber: LTC3404IMS8#PBF; Frequency Sync Range: 1MHz - 1.7MHz; Number of Outputs: 1; DatasheetVersion: Rev. B; PackageVersion: Rev. G, 05/2013; PackageReference: MS8; PackageDescription: 8-Pin Plastic MSOP, Body 3 x 3 mm, Pitch 0.65 mm; Supplier 1: Digi-Key; Supplier Part Number 1: LTC3404IMS8#PBF-ND; Supplier 2: Newark; Supplier Part Number 2: 12P8662; RoHS: TRUE; Mounting Technology: Surface Mount; ComponentLink1Description: Manufacturer URL; ComponentLink1URL: http://www.linear.com/; ComponentLink2Description: Datasheet; ComponentLink2URL: http://cds.linear.com/docs/en/datasheet/3404fb.pdf; ComponentLink3Description: Package Specification; ComponentLink3URL: http://cds.linear.com/docs/en/packaging/05081660_G_MS8.pdf
footprint LT-MS8_N (SOP, 8-Leads, Body 3.1x3.1mm, Pitch 0.65mm, IPC Medium Density)
footprint LT-MS8_L (SOP, 8-Leads, Body 3.1x3.1mm, Pitch 0.65mm, IPC High Density)
footprint LT-MS8_M (SOP, 8-Leads, Body 3.1x3.1mm, Pitch 0.65mm, IPC Low Density)
pins: 1 RUN (in), 2 ITH "Error Amplifier Compensation Point. The current comparator threshold increases with this control voltage. Nominal voltage range for this pin is from 0.5V to 1.9V", 3 VFB (in) "Feedback Pin. Receives the feedback voltage from an external resistive divider across the output.", 4 GND (power) "Ground Pin.", 5 SW (power) "Switch Node Connection to Inductor. This pin connects to the drains of the internal main and synchronous power MOSFET switches.", 6 VIN (power) "Main Supply Pin. Must be closely decoupled to GND, Pin 4.", 7 SYNC/MODE (in), 8 PLL LPF (io) "Output of the Phase Detector and Control Input of Oscillator. Connect a series RC lowpass network from this pin to ground if externally synchronized. If unused, this pin may be left open."

## LTC3404IMS8#TR
designator U?
1.4 MHz High Efficiency Monolithic Synchronous Step-Down Regulator, 8-pin SOP (MS8-8), -40 to 85 degC, Tape and Reel; Manufacturer: Linear Technology; PartNumber: LTC3404IMS8#TR; Frequency Sync Range: 1MHz - 1.7MHz; Number of Outputs: 1; DatasheetVersion: Rev. B; PackageVersion: Rev. G, 05/2013; PackageReference: MS8; PackageDescription: 8-Pin Plastic MSOP, Body 3 x 3 mm, Pitch 0.65 mm; Packing: Tape and Reel; RoHS: FALSE; Mounting Technology: Surface Mount; ComponentLink1Description: Manufacturer URL; ComponentLink1URL: http://www.linear.com/; ComponentLink2Description: Datasheet; ComponentLink2URL: http://cds.linear.com/docs/en/datasheet/3404fb.pdf; ComponentLink3Description: Package Specification; ComponentLink3URL: http://cds.linear.com/docs/en/packaging/05081660_G_MS8.pdf
footprint LT-MS8_N (SOP, 8-Leads, Body 3.1x3.1mm, Pitch 0.65mm, IPC Medium Density)
footprint LT-MS8_L (SOP, 8-Leads, Body 3.1x3.1mm, Pitch 0.65mm, IPC High Density)
footprint LT-MS8_M (SOP, 8-Leads, Body 3.1x3.1mm, Pitch 0.65mm, IPC Low Density)
pins: 1 RUN (in), 2 ITH "Error Amplifier Compensation Point. The current comparator threshold increases with this control voltage. Nominal voltage range for this pin is from 0.5V to 1.9V", 3 VFB (in) "Feedback Pin. Receives the feedback voltage from an external resistive divider across the output.", 4 GND (power) "Ground Pin.", 5 SW (power) "Switch Node Connection to Inductor. This pin connects to the drains of the internal main and synchronous power MOSFET switches.", 6 VIN (power) "Main Supply Pin. Must be closely decoupled to GND, Pin 4.", 7 SYNC/MODE (in), 8 PLL LPF (io) "Output of the Phase Detector and Control Input of Oscillator. Connect a series RC lowpass network from this pin to ground if externally synchronized. If unused, this pin may be left open."

## LTC3404IMS8#TRPBF
designator U?
1.4 MHz High Efficiency Monolithic Synchronous Step-Down Regulator, 8-pin SOP (MS8-8), -40 to 85 degC, Pb-Free, Tape and Reel; Manufacturer: Linear Technology; PartNumber: LTC3404IMS8#TRPBF; Frequency Sync Range: 1MHz - 1.7MHz; Number of Outputs: 1; DatasheetVersion: Rev. B; PackageVersion: Rev. G, 05/2013; PackageReference: MS8; PackageDescription: 8-Pin Plastic MSOP, Body 3 x 3 mm, Pitch 0.65 mm; Supplier 1: Digi-Key; Supplier Part Number 1: LTC3404IMS8#TRPBF-ND; Packing: Tape and Reel; RoHS: TRUE; Mounting Technology: Surface Mount; ComponentLink1Description: Manufacturer URL; ComponentLink1URL: http://www.linear.com/; ComponentLink2Description: Datasheet; ComponentLink2URL: http://cds.linear.com/docs/en/datasheet/3404fb.pdf; ComponentLink3Description: Package Specification; ComponentLink3URL: http://cds.linear.com/docs/en/packaging/05081660_G_MS8.pdf
footprint LT-MS8_N (SOP, 8-Leads, Body 3.1x3.1mm, Pitch 0.65mm, IPC Medium Density)
footprint LT-MS8_L (SOP, 8-Leads, Body 3.1x3.1mm, Pitch 0.65mm, IPC High Density)
footprint LT-MS8_M (SOP, 8-Leads, Body 3.1x3.1mm, Pitch 0.65mm, IPC Low Density)
pins: 1 RUN (in), 2 ITH "Error Amplifier Compensation Point. The current comparator threshold increases with this control voltage. Nominal voltage range for this pin is from 0.5V to 1.9V", 3 VFB (in) "Feedback Pin. Receives the feedback voltage from an external resistive divider across the output.", 4 GND (power) "Ground Pin.", 5 SW (power) "Switch Node Connection to Inductor. This pin connects to the drains of the internal main and synchronous power MOSFET switches.", 6 VIN (power) "Main Supply Pin. Must be closely decoupled to GND, Pin 4.", 7 SYNC/MODE (in), 8 PLL LPF (io) "Output of the Phase Detector and Control Input of Oscillator. Connect a series RC lowpass network from this pin to ground if externally synchronized. If unused, this pin may be left open."

## LTC3404MPMS8#PBF
designator U?
1.4 MHz High Efficiency Monolithic Synchronous Step-Down Regulator, 8-pin SOP (MS8-8), -55 to 125 degC, Pb-Free; Manufacturer: Linear Technology; PartNumber: LTC3404MPMS8#PBF; Frequency Sync Range: 1MHz - 1.7MHz; Number of Outputs: 1; DatasheetVersion: Rev. B; PackageVersion: Rev. G, 05/2013; PackageReference: MS8; PackageDescription: 8-Pin Plastic MSOP, Body 3 x 3 mm, Pitch 0.65 mm; Supplier 1: Digi-Key; Supplier Part Number 1: LTC3404MPMS8#PBF-ND; RoHS: TRUE; Mounting Technology: Surface Mount; ComponentLink1Description: Manufacturer URL; ComponentLink1URL: http://www.linear.com/; ComponentLink2Description: Datasheet; ComponentLink2URL: http://cds.linear.com/docs/en/datasheet/3404fb.pdf; ComponentLink3Description: Package Specification; ComponentLink3URL: http://cds.linear.com/docs/en/packaging/05081660_G_MS8.pdf
footprint LT-MS8_N (SOP, 8-Leads, Body 3.1x3.1mm, Pitch 0.65mm, IPC Medium Density)
footprint LT-MS8_L (SOP, 8-Leads, Body 3.1x3.1mm, Pitch 0.65mm, IPC High Density)
footprint LT-MS8_M (SOP, 8-Leads, Body 3.1x3.1mm, Pitch 0.65mm, IPC Low Density)
pins: 1 RUN (in), 2 ITH "Error Amplifier Compensation Point. The current comparator threshold increases with this control voltage. Nominal voltage range for this pin is from 0.5V to 1.9V", 3 VFB (in) "Feedback Pin. Receives the feedback voltage from an external resistive divider across the output.", 4 GND (power) "Ground Pin.", 5 SW (power) "Switch Node Connection to Inductor. This pin connects to the drains of the internal main and synchronous power MOSFET switches.", 6 VIN (power) "Main Supply Pin. Must be closely decoupled to GND, Pin 4.", 7 SYNC/MODE (in), 8 PLL LPF (io) "Output of the Phase Detector and Control Input of Oscillator. Connect a series RC lowpass network from this pin to ground if externally synchronized. If unused, this pin may be left open."

## LTC3405AES6
designator U?
1.5 MHz, 300 mA Synchronous Step-Down Regulator, 6-pin SOT23 (S6-6), -40 to 85 degC; Manufacturer: Linear Technology; PartNumber: LTC3405AES6; Number of Outputs: 1; DatasheetVersion: Rev. A; PackageVersion: Jun-10; PackageReference: S6-6; PackageDescription: 6-Pin Plastic TSOT-23, Body 2.9 x 1.63 mm, Pitch 0.95 mm; RoHS: FALSE; Mounting Technology: Surface Mount; Code_JEDEC: MO-193; ComponentLink1Description: Manufacturer URL; ComponentLink1URL: http://www.linear.com/; ComponentLink2Description: Datasheet; ComponentLink2URL: http://cds.linear.com/docs/en/datasheet/3405afa.pdf; ComponentLink3Description: Package Specification; ComponentLink3URL: http://cds.linear.com/docs/en/packaging/SOT_6_05-08-1636.pdf
footprint LT-S6-6-TSOT-23_N (SOT23, 6-Leads, Body 2.9x1.75mm, Pitch 0.95mm, IPC Medium Density)
footprint LT-S6-6-TSOT-23_L (SOT23, 6-Leads, Body 2.9x1.75mm, Pitch 0.95mm, IPC High Density)
footprint LT-S6-6-TSOT-23_M (SOT23, 6-Leads, Body 2.9x1.75mm, Pitch 0.95mm, IPC Low Density)
pins: 1 RUN (in) "Run Control Input. Forcing this pin above 1.5V enables the part. Forcing this pin below 0.3V shuts down the device. In shutdown, all functions are disabled drawing <1uA supply current. Do not leave RUN floating.", 2 GND (power) "Ground Pin.", 3 SW (power) "Switch Node Connection to Inductor. This pin connects to the drains of the internal main and synchronous power MOSFET switches.", 4 VIN (power) "Main Supply Pin. Must be closely decoupled to GND, Pin 2, with a 2.2uF or greater ceramic capacitor.", 5 VFB (in) "Feedback Pin. Receives the feedback voltage from an external resistive divider across the output.", 6 MODE (in) "Mode Select Input. To select pulse skipping mode, tie to VIN. Grounding this pin selects Burst Mode operation. Do not leave this pin floating."

## LTC3405AES6#PBF
designator U?
1.5 MHz, 300 mA Synchronous Step-Down Regulator, 6-pin SOT23 (S6-6), -40 to 85 degC, Pb-Free; Manufacturer: Linear Technology; PartNumber: LTC3405AES6#PBF; Number of Outputs: 1; DatasheetVersion: Rev. A; PackageVersion: Jun-10; PackageReference: S6-6; PackageDescription: 6-Pin Plastic TSOT-23, Body 2.9 x 1.63 mm, Pitch 0.95 mm; Supplier 1: Farnell; Supplier Part Number 1: 2102604; Supplier 2: Farnell; Supplier Part Number 2: 1531693; Supplier 3: Newark; Supplier Part Number 3: 66M7839; RoHS: TRUE; Mounting Technology: Surface Mount; Code_JEDEC: MO-193; ComponentLink1Description: Manufacturer URL; ComponentLink1URL: http://www.linear.com/; ComponentLink2Description: Datasheet; ComponentLink2URL: http://cds.linear.com/docs/en/datasheet/3405afa.pdf; ComponentLink3Description: Package Specification; ComponentLink3URL: http://cds.linear.com/docs/en/packaging/SOT_6_05-08-1636.pdf
footprint LT-S6-6-TSOT-23_N (SOT23, 6-Leads, Body 2.9x1.75mm, Pitch 0.95mm, IPC Medium Density)
footprint LT-S6-6-TSOT-23_L (SOT23, 6-Leads, Body 2.9x1.75mm, Pitch 0.95mm, IPC High Density)
footprint LT-S6-6-TSOT-23_M (SOT23, 6-Leads, Body 2.9x1.75mm, Pitch 0.95mm, IPC Low Density)
pins: 1 RUN (in) "Run Control Input. Forcing this pin above 1.5V enables the part. Forcing this pin below 0.3V shuts down the device. In shutdown, all functions are disabled drawing <1uA supply current. Do not leave RUN floating.", 2 GND (power) "Ground Pin.", 3 SW (power) "Switch Node Connection to Inductor. This pin connects to the drains of the internal main and synchronous power MOSFET switches.", 4 VIN (power) "Main Supply Pin. Must be closely decoupled to GND, Pin 2, with a 2.2uF or greater ceramic capacitor.", 5 VFB (in) "Feedback Pin. Receives the feedback voltage from an external resistive divider across the output.", 6 MODE (in) "Mode Select Input. To select pulse skipping mode, tie to VIN. Grounding this pin selects Burst Mode operation. Do not leave this pin floating."

## LTC3405AES6#TR
designator U?
1.5 MHz, 300 mA Synchronous Step-Down Regulator, 6-pin SOT23 (S6-6), -40 to 85 degC, Tape and Reel; Manufacturer: Linear Technology; PartNumber: LTC3405AES6#TR; Number of Outputs: 1; DatasheetVersion: Rev. A; PackageVersion: Jun-10; PackageReference: S6-6; PackageDescription: 6-Pin Plastic TSOT-23, Body 2.9 x 1.63 mm, Pitch 0.95 mm; Supplier 1: Digi-Key; Supplier Part Number 1: LTC3405AES6TR-ND; Supplier 2: Newark; Supplier Part Number 2: 56M7526; Packing: Tape and Reel; RoHS: FALSE; Mounting Technology: Surface Mount; Code_JEDEC: MO-193; ComponentLink1Description: Manufacturer URL; ComponentLink1URL: http://www.linear.com/; ComponentLink2Description: Datasheet; ComponentLink2URL: http://cds.linear.com/docs/en/datasheet/3405afa.pdf; ComponentLink3Description: Package Specification; ComponentLink3URL: http://cds.linear.com/docs/en/packaging/SOT_6_05-08-1636.pdf
footprint LT-S6-6-TSOT-23_N (SOT23, 6-Leads, Body 2.9x1.75mm, Pitch 0.95mm, IPC Medium Density)
footprint LT-S6-6-TSOT-23_L (SOT23, 6-Leads, Body 2.9x1.75mm, Pitch 0.95mm, IPC High Density)
footprint LT-S6-6-TSOT-23_M (SOT23, 6-Leads, Body 2.9x1.75mm, Pitch 0.95mm, IPC Low Density)
pins: 1 RUN (in) "Run Control Input. Forcing this pin above 1.5V enables the part. Forcing this pin below 0.3V shuts down the device. In shutdown, all functions are disabled drawing <1uA supply current. Do not leave RUN floating.", 2 GND (power) "Ground Pin.", 3 SW (power) "Switch Node Connection to Inductor. This pin connects to the drains of the internal main and synchronous power MOSFET switches.", 4 VIN (power) "Main Supply Pin. Must be closely decoupled to GND, Pin 2, with a 2.2uF or greater ceramic capacitor.", 5 VFB (in) "Feedback Pin. Receives the feedback voltage from an external resistive divider across the output.", 6 MODE (in) "Mode Select Input. To select pulse skipping mode, tie to VIN. Grounding this pin selects Burst Mode operation. Do not leave this pin floating."

## LTC3405AES6#TRM
designator U?
1.5 MHz, 300 mA Synchronous Step-Down Regulator, 6-pin SOT23 (S6-6), -40 to 85 degC, Mini Tape and Reel; Manufacturer: Linear Technology; PartNumber: LTC3405AES6#TRM; Number of Outputs: 1; DatasheetVersion: Rev. A; PackageVersion: Jun-10; PackageReference: S6-6; PackageDescription: 6-Pin Plastic TSOT-23, Body 2.9 x 1.63 mm, Pitch 0.95 mm; Supplier 1: Digi-Key; Supplier Part Number 1: LTC3405AES6#TRMTR-ND; Supplier 2: Digi-Key; Supplier Part Number 2: LTC3405AES6#TRMCT-ND; Supplier 3: Digi-Key; Supplier Part Number 3: LTC3405AES6#TRMDKR-ND; Packing: Mini Tape and Reel; RoHS: FALSE; Mounting Technology: Surface Mount; Code_JEDEC: MO-193; ComponentLink1Description: Manufacturer URL; ComponentLink1URL: http://www.linear.com/; ComponentLink2Description: Datasheet; ComponentLink2URL: http://cds.linear.com/docs/en/datasheet/3405afa.pdf; ComponentLink3Description: Package Specification; ComponentLink3URL: http://cds.linear.com/docs/en/packaging/SOT_6_05-08-1636.pdf
footprint LT-S6-6-TSOT-23_N (SOT23, 6-Leads, Body 2.9x1.75mm, Pitch 0.95mm, IPC Medium Density)
footprint LT-S6-6-TSOT-23_L (SOT23, 6-Leads, Body 2.9x1.75mm, Pitch 0.95mm, IPC High Density)
footprint LT-S6-6-TSOT-23_M (SOT23, 6-Leads, Body 2.9x1.75mm, Pitch 0.95mm, IPC Low Density)
pins: 1 RUN (in) "Run Control Input. Forcing this pin above 1.5V enables the part. Forcing this pin below 0.3V shuts down the device. In shutdown, all functions are disabled drawing <1uA supply current. Do not leave RUN floating.", 2 GND (power) "Ground Pin.", 3 SW (power) "Switch Node Connection to Inductor. This pin connects to the drains of the internal main and synchronous power MOSFET switches.", 4 VIN (power) "Main Supply Pin. Must be closely decoupled to GND, Pin 2, with a 2.2uF or greater ceramic capacitor.", 5 VFB (in) "Feedback Pin. Receives the feedback voltage from an external resistive divider across the output.", 6 MODE (in) "Mode Select Input. To select pulse skipping mode, tie to VIN. Grounding this pin selects Burst Mode operation. Do not leave this pin floating."

## LTC3405AES6#TRMPBF
designator U?
1.5 MHz, 300 mA Synchronous Step-Down Regulator, 6-pin SOT23 (S6-6), -40 to 85 degC, Pb-Free, Mini Tape and Reel; Manufacturer: Linear Technology; PartNumber: LTC3405AES6#TRMPBF; Number of Outputs: 1; DatasheetVersion: Rev. A; PackageVersion: Jun-10; PackageReference: S6-6; PackageDescription: 6-Pin Plastic TSOT-23, Body 2.9 x 1.63 mm, Pitch 0.95 mm; Supplier 1: Digi-Key; Supplier Part Number 1: LTC3405AES6#TRMPBFTR-ND; Supplier 2: Digi-Key; Supplier Part Number 2: LTC3405AES6#TRMPBFCT-ND; Supplier 3: Digi-Key; Supplier Part Number 3: LTC3405AES6#TRMPBFDKR-ND; Supplier 4: Newark; Supplier Part Number 4: 59M8271; Packing: Mini Tape and Reel; RoHS: TRUE; Mounting Technology: Surface Mount; Code_JEDEC: MO-193; ComponentLink1Description: Manufacturer URL; ComponentLink1URL: http://www.linear.com/; ComponentLink2Description: Datasheet; ComponentLink2URL: http://cds.linear.com/docs/en/datasheet/3405afa.pdf; ComponentLink3Description: Package Specification; ComponentLink3URL: http://cds.linear.com/docs/en/packaging/SOT_6_05-08-1636.pdf
footprint LT-S6-6-TSOT-23_N (SOT23, 6-Leads, Body 2.9x1.75mm, Pitch 0.95mm, IPC Medium Density)
footprint LT-S6-6-TSOT-23_L (SOT23, 6-Leads, Body 2.9x1.75mm, Pitch 0.95mm, IPC High Density)
footprint LT-S6-6-TSOT-23_M (SOT23, 6-Leads, Body 2.9x1.75mm, Pitch 0.95mm, IPC Low Density)
pins: 1 RUN (in) "Run Control Input. Forcing this pin above 1.5V enables the part. Forcing this pin below 0.3V shuts down the device. In shutdown, all functions are disabled drawing <1uA supply current. Do not leave RUN floating.", 2 GND (power) "Ground Pin.", 3 SW (power) "Switch Node Connection to Inductor. This pin connects to the drains of the internal main and synchronous power MOSFET switches.", 4 VIN (power) "Main Supply Pin. Must be closely decoupled to GND, Pin 2, with a 2.2uF or greater ceramic capacitor.", 5 VFB (in) "Feedback Pin. Receives the feedback voltage from an external resistive divider across the output.", 6 MODE (in) "Mode Select Input. To select pulse skipping mode, tie to VIN. Grounding this pin selects Burst Mode operation. Do not leave this pin floating."